# Altium footprint library Library.PcbLib: 124 footprints (part 3 of 8)
Each footprint in its own frame and in the unit in brackets; x right, y up, seen from the top. Pads: shape width x height; smd on the part's side, far side on the other; paste and mask are expansions set on the pad; w line width, h text height; cw(c..) or ccw(c..) is an arc to the next point about the centre after c.
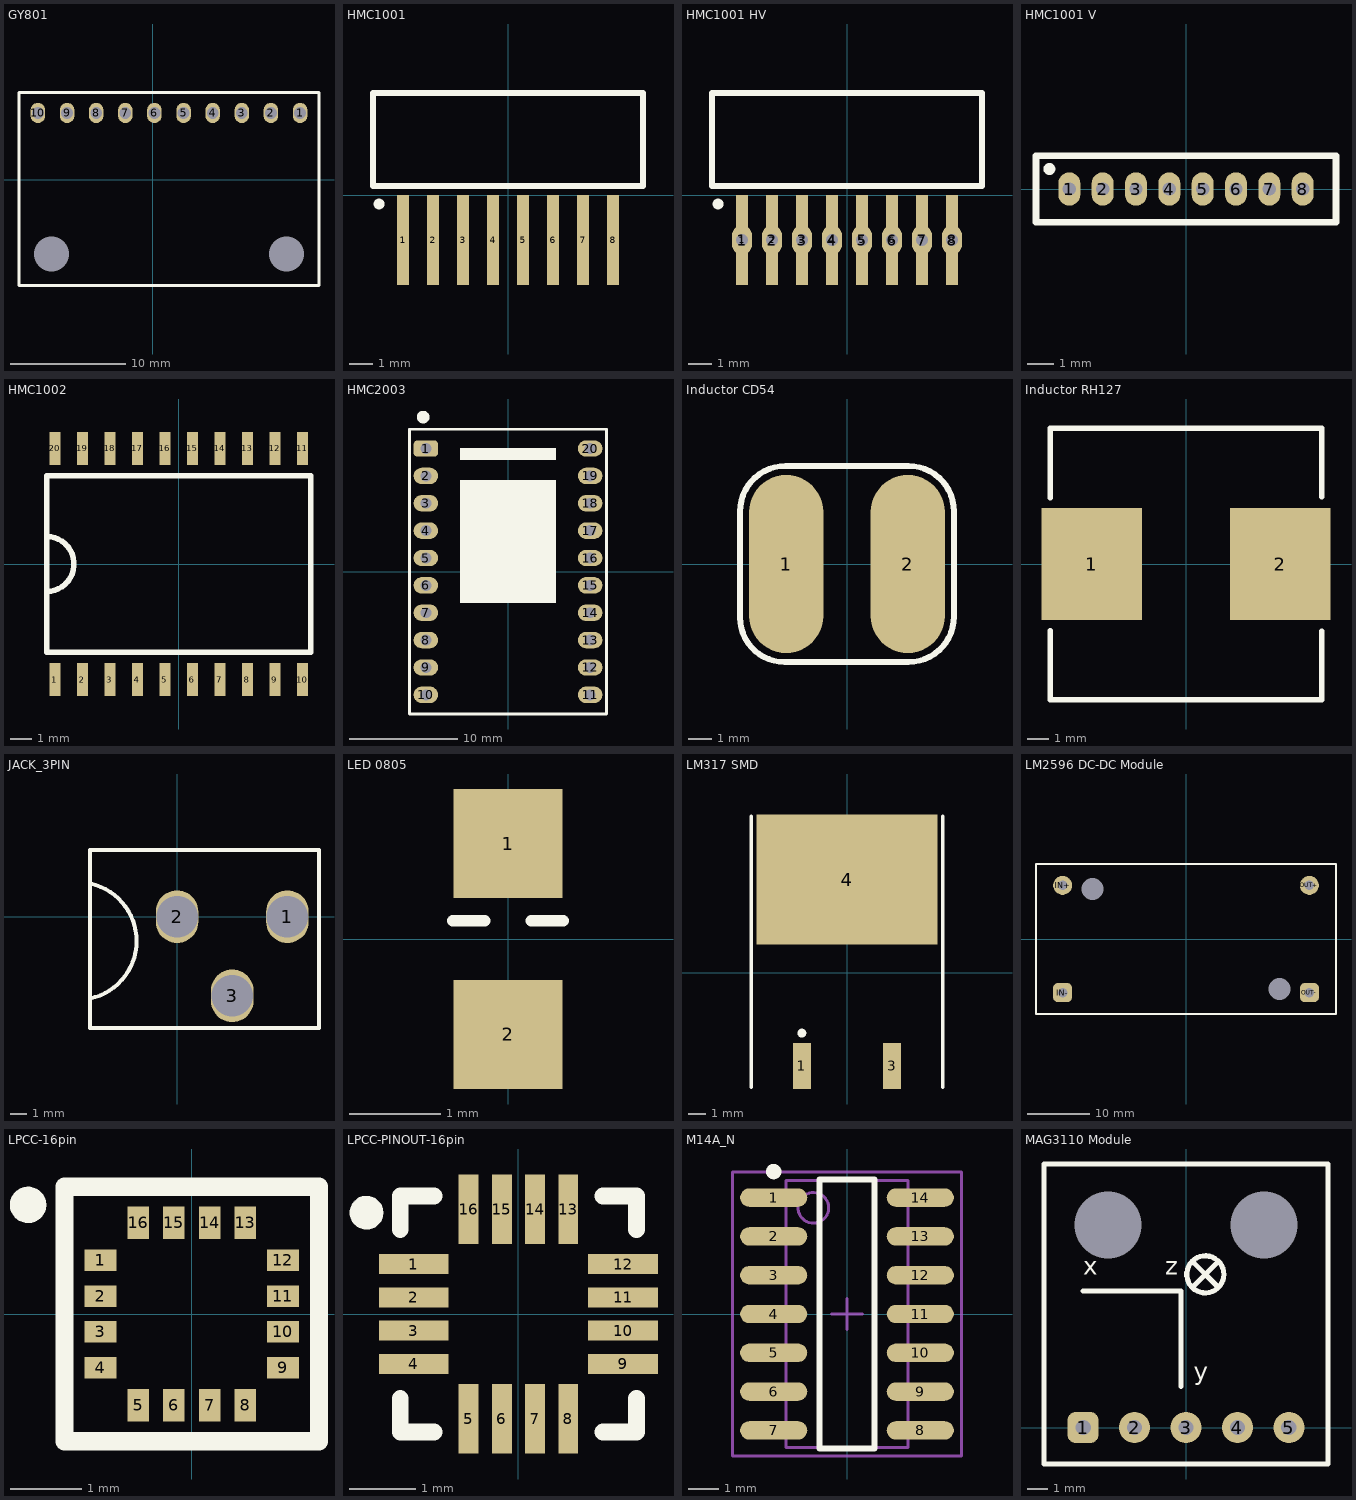
[diagram p2: the footprints below, top view; thin cyan lines are the x and y axes]

## GY801 [mil]
pads (12):
  oval 50x70 hole 40: 1(505,230) 2(405,230) 3(305,230) 4(205,230) 5(105,230) 6(5,230) 7(-95,230) 8(-195,230) 9(-295,230) 10(-395,230)
  round 0 hole 120: 11(458,-254) 12(-348,-254)
Top Overlay:
  lines w10: -460,-362 570,-362 570,300 -460,300 -460,-362

## HMC1001 [mm]
pads (8):
  rect 0.5x3.81 smd: 1(-4.445,-1.905) 2(-3.175,-1.905) 3(-1.905,-1.905) 4(-0.635,-1.905) 5(0.635,-1.905) 6(1.905,-1.905) 7(3.175,-1.905) 8(4.445,-1.905)
Top Overlay:
  circle w0.254: c-5.461,-0.381 r0.102
  lines w0.254: -5.715,0.381 -5.715,4.318 5.715,4.318 5.715,0.381 -5.715,0.381

## HMC1001 HV [mil]
pads (16):
  rect 19.68x150 smd: 1(-175,-75) 2(-125,-75) 3(-75,-75) 4(-25,-75) 5(25,-75) 6(75,-75) 7(125,-75) 8(175,-75)
  oval 33x50 hole 20: 1(-175,-75) 2(-125,-75) 3(-75,-75) 4(-25,-75) 5(25,-75) 6(75,-75) 7(125,-75) 8(175,-75)
Top Overlay:
  circle w10: c-215,-15 r4
  lines w10: -225,15 -225,170 225,170 225,15 -225,15

## HMC1001 V [mil]
pads (8):
  oval 33x50 hole 20: 1(-175,0) 2(-125,0) 3(-75,0) 4(-25,0) 5(25,0) 6(75,0) 7(125,0) 8(175,0)
Top Overlay:
  circle w10: c-205,30 r4
  lines w10: -225,-50 -225,50 225,50 225,-50 -225,-50

## HMC1002 [mil]
pads (20):
  rect 20x60 smd: 1(-225,-210) 2(-175,-210) 3(-125,-210) 4(-75,-210) 5(-25,-210) 6(25,-210) 7(75,-210) 8(125,-210) 9(175,-210) 10(225,-210) 11(225,210) 12(175,210) 13(125,210) 14(75,210) 15(25,210) 16(-25,210) 17(-75,210) 18(-125,210) 19(-175,210) 20(-225,210)
Top Overlay:
  lines w10: -240,-50 ccw(c-240,0) -240,50 ; -240,-160 240,-160 240,160 -240,160 -240,-160

## HMC2003 [mil] "HMC2003"
pads (20):
  rrect50% 90x60 hole 40: 1(-300,450)
  oval 90x60 hole 40: 2(-300,350) 3(-300,250) 4(-300,150) 5(-300,50) 6(-300,-50) 7(-300,-150) 8(-300,-250) 9(-300,-350) 10(-300,-450) 11(300,-450) 12(300,-350) 13(300,-250) 14(300,-150) 15(300,-50) 16(300,50) 17(300,150) 18(300,250) 19(300,350) 20(300,450)
Top Overlay:
  circle w23.62: c-310,565 r11.18
  rectangle: -175,-115 175,335
  rectangle: -175,407.5 175,452.5
  lines w10: -360,-520 360,-520 360,520 -360,520 -360,-520

## Inductor CD54 [mm]
height 5
pads (2):
  rrect100% 3.175x7.62 smd: 1(-2.6,0) 2(2.6,0)
Top Overlay:
  lines w0.254: -4.572,-2.286 ccw(c-2.667,-2.286) -2.667,-4.191 2.626,-4.191 ccw(c2.626,-2.245) 4.572,-2.245 4.572,2.245 ccw(c2.626,2.245) 2.626,4.191 -2.626,4.191 ccw(c-2.626,2.245) -4.572,2.245 -4.572,-2.286

## Inductor RH127 [mm] "Inductor"
height 10
pads (2):
  rect 4.6x5.1 smd: 1(-4.3,0) 2(4.3,0)
Top Overlay:
  lines w0.254: -6.2,-3.048 -6.2,-6.2 6.2,-6.2 6.2,-3.071 ; -6.2,3.025 -6.2,6.2 6.2,6.2 6.2,3.071

## JACK_3PIN [mil]
pads (3):
  oval 105x130 hole 102: 1(272,0) 2(0,0) 3(136,-195)
Top Overlay:
  lines w10: -214.94,-201.85 ccw(c-245,-60) -213.55,81.55 ; -215,-275 350,-275 350,165 -215,165 -215,-275

## LED 0805 [mm]
pads (2):
  rect 1.2x1.2 smd: 1(0,1.05) 2(0,-1.05)
Top Overlay:
  lines w0.127: -0.61,0.203 -0.254,0.203 ; 0.254,0.203 0.61,0.203

## LM317 SMD [mm] "D2-PAK/TO-263-AB; 3 Leads (1 Cropped); Body 14.7 (inc. leads) x 10.2 mm (LxW max)"
height 4.58
pads (3):
  rect 1x2.6 smd: 1(-2.54,-5.25) 3(2.54,-5.25)
  rect 10.2x7.3 smd: 4(0,5.25)
Top Overlay:
  circle w0.25: c-2.54,-3.4 r0.125
  lines w0.2: -5.4,-6.45 -5.4,8.8 ; 5.4,-6.45 5.4,8.8

## LM2596 DC-DC Module [mil] "LM2596 DC-DC Module"
height 551.18
pads (6):
  round 0 hole 137.8: 6(590,-315) 7(-590,315)
  round 120 hole 60: IN+(-777.48,337.5) OUT+(777.48,337.5)
  rrect50% 120x120 hole 60: IN-(-777.48,-337.5) OUT-(777.48,-337.5)
Top Overlay:
  lines w10: -944.88,-472.44 944.88,-472.44 944.88,472.44 -944.88,472.44 -944.88,-472.44

## LPCC-16pin [mm] "HMC5883"
pads (16):
  rect 0.45x0.3 smd: 1(-1.275,0.75) 2(-1.275,0.25) 3(-1.275,-0.25) 4(-1.275,-0.75) 9(1.275,-0.75) 10(1.275,-0.25) 11(1.275,0.25) 12(1.275,0.75)
  rect 0.3x0.45 smd: 5(-0.75,-1.275) 6(-0.25,-1.275) 7(0.25,-1.275) 8(0.75,-1.275) 13(0.75,1.275) 14(0.25,1.275) 15(-0.25,1.275) 16(-0.75,1.275)
Top Overlay:
  circle w0.254: c-2.286,1.524 r0.127
  lines w0.254: -1.778,-1.778 -1.778,1.778 1.778,1.778 1.778,-1.778 -1.778,-1.778

## LPCC-PINOUT-16pin [mm] "HMC5883"
pads (16):
  rect 1.05x0.3 smd: 1(-1.575,0.75) 2(-1.575,0.25) 3(-1.575,-0.25) 4(-1.575,-0.75) 9(1.575,-0.75) 10(1.575,-0.25) 11(1.575,0.25) 12(1.575,0.75)
  rect 0.3x1.05 smd: 5(-0.75,-1.575) 6(-0.25,-1.575) 7(0.25,-1.575) 8(0.75,-1.575) 13(0.75,1.575) 14(0.25,1.575) 15(-0.25,1.575) 16(-0.75,1.575)
Top Overlay:
  circle w0.254: c-2.286,1.524 r0.127
  lines w0.254: -1.778,-1.27 -1.778,-1.778 -1.27,-1.778 ; -1.778,1.27 -1.778,1.778 -1.27,1.778 ; 1.27,-1.778 1.778,-1.778 1.778,-1.27 ; 1.27,1.778 1.778,1.778 1.778,1.27

## M14A_N [mm] "SOIC, 14-Leads, Body 8.6x3.9mm, Pitch 1.27mm, IPC Medium Density"
height 1.75
pads (14):
  oval 2.2x0.6 smd: 1(-2.4,3.81) 2(-2.4,2.54) 3(-2.4,1.27) 4(-2.4,0) 5(-2.4,-1.27) 6(-2.4,-2.54) 7(-2.4,-3.81) 8(2.4,-3.81) 9(2.4,-2.54) 10(2.4,-1.27) 11(2.4,0) 12(2.4,1.27) 13(2.4,2.54) 14(2.4,3.81)
Top Overlay:
  circle w0.25: c-2.4,4.66 r0.125
  lines w0.2: -0.9,-4.4 0.9,-4.4 0.9,4.4 -0.9,4.4 -0.9,-4.4
Mechanical 13:
  circle w0.1: c-1.1,3.475 r0.5
  lines w0.1: -2,-4.375 2,-4.375 2,4.375 -2,4.375 -2,-4.375
Mechanical 15:
  lines w0.1: -0.5,0 0.5,0 ; 0,-0.5 0,0.5 ; -3.75,-4.65 3.75,-4.65 3.75,4.65 -3.75,4.65 -3.75,-4.65
3D body: height 1.75, standoff 0, extent -2,-4.375 2,4.375

## MAG3110 Module [mil] "MAG3110 Module (Red PCB)"
height 196.85
pads (7):
  rrect50% 60x60 hole 30: 1(-200,0)
  round 60 hole 30: 2(-100,0) 3(0,0) 4(100,0) 5(200,0)
  round 0 hole 129.92: 6(151.57,393.7) 7(-151.57,393.7)
Top Overlay:
  circle w10: c37.5,297.5 r36.06
  lines w10: -200,265 -10,265 -10,80 ; 15,275 60,320 ; 15,320 60,275 ; -275.59,-70.87 275.59,-70.87 275.59,511.81 -275.59,511.81 -275.59,-70.87
  text "z" at -40,285 h60
  text "x" at -200,285 h60
  text "y" at 15,80 h60